# EAGLE library part 74VHC4040MTC (library Fairchild_By_element14_Batch_1)
12-Stage Binary Counter
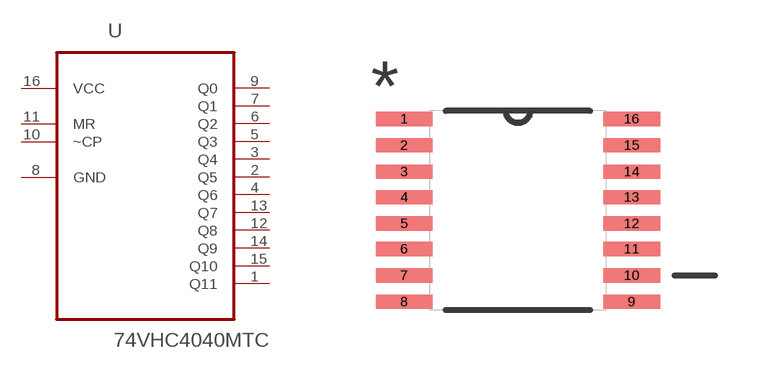
[diagram p139: symbol with the pads of SOP65P640X110-16N; footprint SOP65P640X110-16N]

Designator prefix U

## 74VHC4040MTC (MPN: 74VHC4040MTC; OC_FARNELL: 1699772; OC_NEWARK: 83C5642; PACKAGE: TSSOP-16; SUPPLIER: FAIRCHILD SEMICONDUCTOR)  [SOP65P640X110-16N]
1  Q11  out
2  Q5  out
3  Q4  out
4  Q6  out
5  Q3  out
6  Q2  out
7  Q1  out
8  GND  pas
9  Q0  out
10  ~CP  in
11  MR  in
12  Q8  out
13  Q7  out
14  Q9  out
15  Q10  out
16  VCC  pwr

## Footprint SOP65P640X110-16N (pad centres in mm)
smd 1.422 x 0.356: 1 -2.845,2.286; 2 -2.845,1.626; 3 -2.845,0.965; 4 -2.845,0.33; 5 -2.845,-0.33; 6 -2.845,-0.965; 7 -2.845,-1.626; 8 -2.845,-2.286; 9 2.845,-2.286; 10 2.845,-1.626; 11 2.845,-0.965; 12 2.845,-0.33; 13 2.845,0.33; 14 2.845,0.965; 15 2.845,1.626; 16 2.845,2.286